# Altium footprint library 2019中国机器人底板.PcbLib: 6 footprints
Each footprint in its own frame and in the unit in brackets; x right, y up, seen from the top. Pads: shape width x height; smd on the part's side, far side on the other; paste and mask are expansions set on the pad; w line width, h text height; cw(c..) or ccw(c..) is an arc to the next point about the centre after c.
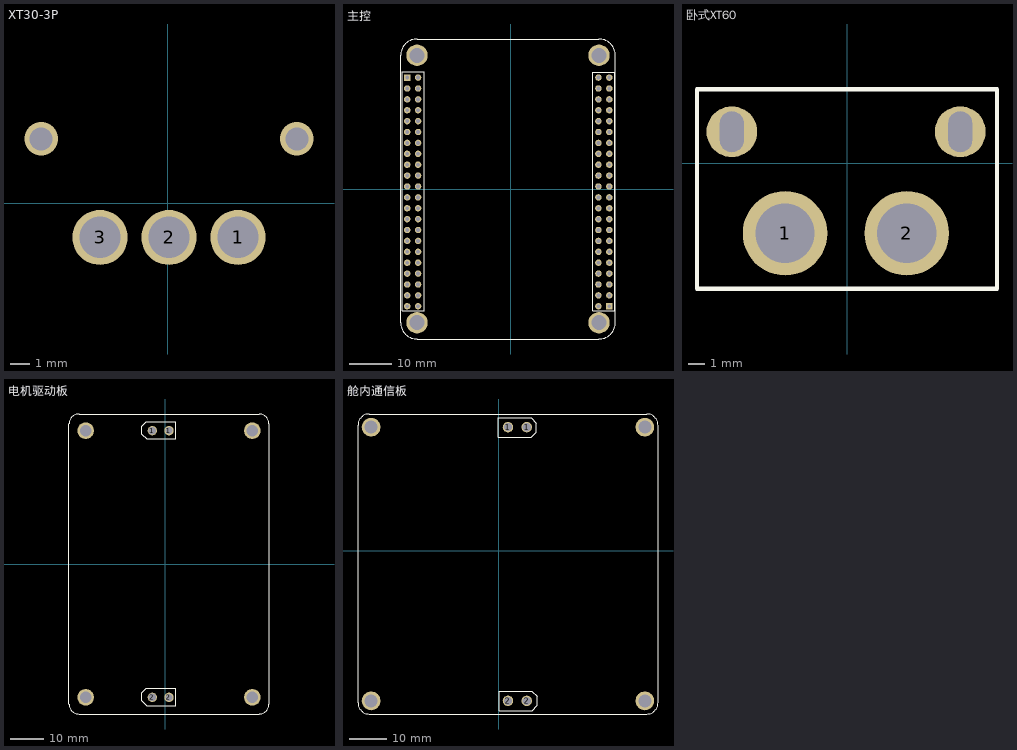
[diagram p0: the footprints below, top view; thin cyan lines are the x and y axes]

## XT30-3P [mm]
pads (3):
  round 2.8 hole 2.1: 1(3.581,-1.727) 2(0.076,-1.727) 3(-3.429,-1.727)
via -6.424,3.273 diameter 1.7 hole 1.15
via 6.576,3.273 diameter 1.7 hole 1.15
Bottom Overlay:
  lines w0.254: -7.544,0.686 -7.544,5.258 -7.544,5.639 7.696,5.639 7.696,5.258 7.696,0.723 3.581,0.723 cw(c3.581,-1.727) 3.581,-4.177 -3.429,-4.177 cw(c-3.429,-1.727) -3.429,0.723 -7.507,0.723 ; 1.803,0.686 1.829,-3.251 1.829,-4.177

## 主控 [mm]
pads (92):
  round 1.5 hole 0.9: 1(-24.105,-1.905) 1(-24.105,8.255) 1(-24.105,15.875) 1(-21.565,-1.905) 1(-21.565,8.255) 1(-21.565,15.875) 1(-21.565,26.035) 2(-24.105,23.495) 3(-21.565,23.495) 4(-24.105,20.955) 5(-21.565,20.955) 6(-24.105,-4.445) 6(-24.105,10.795) 6(-21.565,-4.445) 6(-21.565,10.795) 6(20.498,26.035) 6(23.038,26.035) 7(-21.565,5.715) 8(-24.105,-6.985) 9(-21.565,-6.985) 10(-24.105,5.715) 11(-21.565,3.175) 12(-24.105,-9.525) 13(-21.565,-9.525) 14(-24.105,3.175) 15(-24.105,-14.605) 16(-21.565,-14.605) 17(-21.565,-17.145) 18(20.498,23.495) 19(23.038,23.495) 20(20.498,-1.905) 20(20.498,0.635) 20(23.038,-1.905) 20(23.038,0.635) 21(20.498,-6.985) 21(20.498,-4.445) 21(23.038,-6.985) 21(23.038,-4.445) 22(20.498,-12.065) 22(20.498,-9.525) 22(23.038,-12.065) 22(23.038,-9.525) 23(20.498,-17.145) 23(20.498,-14.605) 23(23.038,-17.145) 23(23.038,-14.605) 24(20.498,-22.225) 24(20.498,-19.685) 24(23.038,-22.225) 24(23.038,-19.685) 25(20.498,-27.305) 25(20.498,-24.765) 25(23.038,-24.765) 26(-24.105,-17.145) 26(-24.105,-12.065) 26(-24.105,0.635) 26(-24.105,13.335) 26(-24.105,18.415) 26(-21.565,-12.065) 26(-21.565,0.635) 26(-21.565,13.335) 26(-21.565,18.415) 26(20.498,20.955) 26(23.038,20.955) " "(-24.105,-19.685) ""(-24.105,-27.305) ""(-24.105,-24.765) ""(-24.105,-22.225) ""(-21.565,-27.305) ""(-21.565,-24.765) ""(-21.565,-22.225) ""(-21.565,-19.685) ""(20.498,3.175) ""(20.498,5.715) ""(20.498,8.255) ""(20.498,10.795) ""(20.498,13.335) ""(20.498,15.875) ""(20.498,18.415) ""(23.038,3.175) ""(23.038,5.715) ""(23.038,8.255) ""(23.038,10.795) ""(23.038,13.335) ""(23.038,15.875) ""(23.038,18.415)
  rect 1.5x1.5 hole 0.9: 1(-24.105,26.035) 25(23.038,-27.305)
  round 5 hole 3.5: ""(-21.819,-31.144) ""(-21.819,31.236) ""(20.631,-31.144) ""(20.631,31.236)
Top Overlay:
  circle w0.013: c-21.819,31.236 r1.6
  circle w0.013: c20.631,31.236 r1.6
  circle w0.013: c20.631,-31.144 r1.6
  circle w0.013: c-21.819,-31.144 r1.6
  lines w0.013: -25.619,-31.144 ccw(c-21.819,-31.144) -21.819,-34.944 20.631,-34.944 ccw(c20.631,-31.144) 24.431,-31.144 24.431,31.236 ccw(c20.631,31.236) 20.631,35.036 -21.819,35.036 ccw(c-21.819,31.236) -25.619,31.236 -25.619,-31.144
  lines w0.2: -25.223,-28.33 -25.223,27.445 -20.143,27.445 -20.143,-28.33 ; 19.228,-28.296 24.308,-28.296 24.308,27.305 19.228,27.305 19.228,-28.296
  lines w0.254: -25.223,-28.33 -20.143,-28.33
Top Solder:
  circle w0.254: c20.498,-17.145 r0.742

## 卧式XT60 [mm]
pads (4):
  round 5 hole 3.5: 1(-3.683,-4.14)
  round 5 hole 3.53: 2(3.505,-4.14)
  round 3 hole 2.4 slot 1.4 at 0 deg: ""(-6.833,1.86) ""(6.667,1.86)
Top Overlay:
  lines w0.254: -8.89,-7.417 -8.89,4.369 8.839,4.369 8.839,-7.417 -8.89,-7.417

## 开关电源 [mm]
via -111.201,18.974 diameter 5 hole 3
via -111.201,-23.698 diameter 5 hole 3
via 105.969,-23.698 diameter 5 hole 3
via 105.969,18.974 diameter 5 hole 3

## 电机驱动板 [mm]
pads (8):
  round 2.8 hole 2.2: 1(-3.9,40.1) 2(-3.9,-39.9)
  round 2.8 hole 2.1: 1(1.1,40.1) 2(1.1,-39.9)
  round 5 hole 3.5: ""(-23.9,-39.9) ""(-23.9,40.1) ""(26.1,-39.9) ""(26.1,40.1)
Top Overlay:
  lines w0.013: -28.9,-41.9 ccw(c-25.9,-41.9) -25.9,-44.9 28.1,-44.9 ccw(c28.1,-41.9) 31.1,-41.9 31.1,42.1 ccw(c28.1,42.1) 28.1,45.1 -25.9,45.1 ccw(c-25.9,42.1) -28.9,42.1 -28.9,-41.9
  lines w0.254: -7.074,39.042 -5.637,37.605 3.126,37.605 3.126,42.805 -5.713,42.805 -7.074,41.444 -7.074,39.042 ; -7.05,-40.926 -7.05,-38.524 -5.69,-37.163 3.15,-37.163 3.15,-42.363 -5.613,-42.363 -7.05,-40.926

## 舱内通信板 [mm]
pads (8):
  round 2.8 hole 2.1: 1(2.431,32.949) 2(2.431,-40.051)
  round 2.8 hole 2.2: 1(7.431,32.949) 2(7.431,-40.051)
  round 5 hole 3.5: ""(-34.069,-40.051) ""(-34.069,32.949) ""(38.931,-40.051) ""(38.931,32.949)
Top Overlay:
  circle w0.013: c-34.069,-40.051 r1.75
  circle w0.013: c38.931,32.949 r1.75
  circle w0.013: c-34.069,32.949 r1.75
  circle w0.013: c38.931,-40.051 r1.75
  lines w0.013: -37.569,-40.551 ccw(c-34.569,-40.551) -34.569,-43.551 39.431,-43.551 ccw(c39.431,-40.551) 42.431,-40.551 42.431,33.449 ccw(c39.431,33.449) 39.431,36.449 -34.569,36.449 ccw(c-34.569,33.449) -37.569,33.449 -37.569,-40.551
  lines w0.254: -0.175,30.231 -0.175,35.431 8.588,35.431 10.025,33.994 10.025,31.591 8.664,30.231 -0.175,30.231 ; 0.05,-42.644 0.05,-37.444 8.813,-37.444 10.25,-38.881 10.25,-41.284 8.889,-42.644 0.05,-42.644